# Altium schematic symbol library Schlib1.SchLib: 14 symbols
Pins are listed as number, name and electrical type; pins without a type are passive.

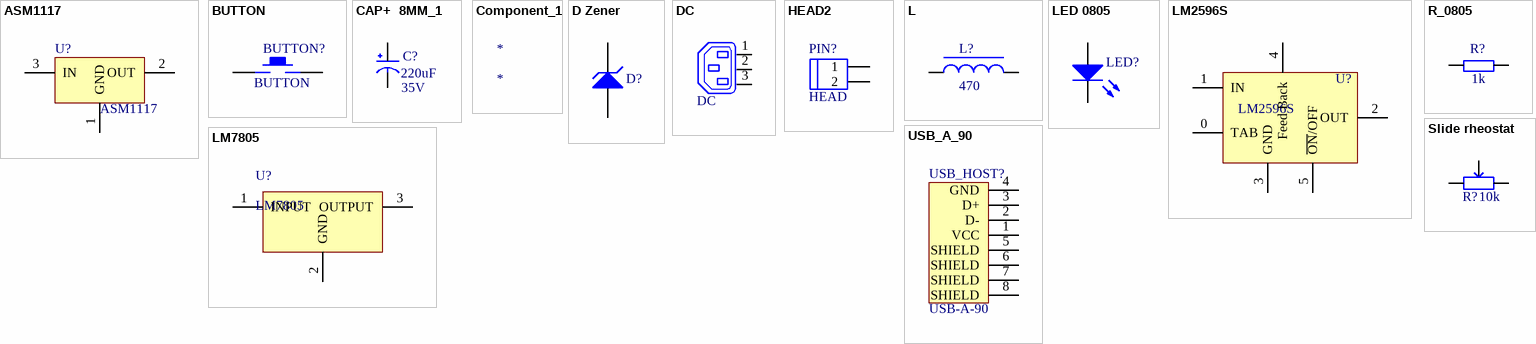
[diagram p0: symbols ASM1117 to USB_A_90]

## ASM1117
designator U?
ASM1117三端稳压芯片
footprint AMS1117 (三端稳压芯片)
pins: 1 GND "SN74HC245", 2 OUT "SN74HC245", 3 IN "SN74HC245"

## BUTTON
designator BUTTON?
footprint BOUTTON (Boutton 开关)
pins: 1, 2

## CAP+  8MM_1
designator C?, comment 220uF  Voltage: 35V
有极性电容
footprint 8mm CAP+ (贴片电解电容直径8mm)
pins: 1 VCC, 2 GND

## Component_1
designator *

## D Zener
designator D?  (value not drawn)
稳压二极管; Published: 8-Jun-2000; LatestRevisionDate: 17-Jul-2002; LatestRevisionNote: Re-released for DXP Platform.; PackageReference: DIODE-0.7; Publisher: Altium Limited; PackageDescription: Diode, Thru-Hole; 2 Leads; 0.7 in Pin Spacing
footprint Diode-SS14 (肖特基二极管 SS14)
pins: 1 A, 2 K

## DC
designator DC?
footprint DC-DC接口
pins: 1 + (power) "Neutral", 2 - (power) "Live (Active)", 3 - (power) "Earth (Ground)"

## HEAD2
designator PIN?, comment HEAD
footprint 2PIN (2PIN座子)
pins: 1, 2

## L
designator L?, comment value 470  (hidden comment: Inductor)
Code_IEC: 1005; Published: 8-Jun-2000; LatestRevisionDate: 29-May-2009; LatestRevisionNote: IPC-7351 Footprint Added.; PackageReference: 0402-A; Publisher: Altium Limited; PackageDescription: Chip Inductor; Code_JEITA: 0402
footprint L - DUPLICATE1 (电感)
pins: 1, 2

## LED 0805
designator LED?, comment LED_0805  (value not drawn)
0805-LED; Published: 8-Jun-2000; LatestRevisionDate: 08-Jul-2005; LatestRevisionNote: Mech Layer 1 removed.; PackageReference: LED-0; Publisher: Altium Limited; PackageDescription: LED; 2 Leads
footprint LED-0805 (0805LED)
pins: 1, 2

## LM2596S
designator U?
LM2596S稳压芯片
footprint LM2596S
pins: 0 TAB (power), 1 IN, 2 OUT, 3 GND (power), 4 Feed Back (power), 5 ~{ON}/OFF (power)

## LM7805
designator U?
LM7805三端稳压芯片
pins: 1 INPUT, 2 GND, 3 OUTPUT

## R_0805
designator R?, comment value 1k  (hidden comment: 0805)
0805电阻
footprint R_0603 (0603电阻)
pins: 1, 2

## Slide rheostat
designator R?  value 10k  (hidden comment: Slide rheostat)
3296W电位器
footprint RESPACK
pins: 1, 2, 3

## USB_A_90
designator USB_HOST?, comment USB-A-90
footprint USB-A-90
pins: 1 VCC, 2 D-, 3 D+, 4 GND, 5 SHIELD, 6 SHIELD, 7 SHIELD, 8 SHIELD